# EAGLE library part VP1* (library inductor-cooper)
TRANSFORMER/INDUCTOR
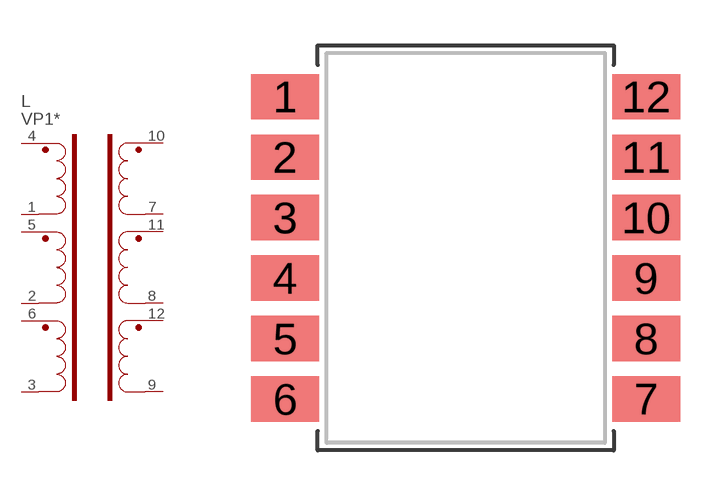
[diagram p0: symbol with the pads of VP1; footprint VP1]

Designator prefix L; gates P1=PNV P2=P P3=P S1=S S2=S S3=S

## VP1-0076-R (ISAT: 0.72A; L: 10.9uH; P1I: o), VP1-0102-R (ISAT: 0.8A; L: 6.5uH; P1I: o), VP1-0190-R (ISAT: 0.43A; L: 12.2uH; P1I: o), VP1-1400-R (ISAT: 0.06A; L: 89.6uH; P1I: o)  [VP1]
1  P1:PC  pas
2  P2:PC  pas
3  P3:PC  pas
4  P1:PH  pas
5  P2:PH  pas
6  P3:PH  pas
7  S1:SC  pas
8  S2:SC  pas
9  S3:SC  pas
10  S1:SH  pas
11  S2:SH  pas
12  S3:SH  pas

## Footprint VP1 (pad centres in mm)
INDUCTOR/TRANSFORMER VP1 and VPH1
smd 2.25 x 1.5: 1 -5.975,5; 2 -5.975,3; 3 -5.975,1; 4 -5.975,-1; 5 -5.975,-3; 6 -5.975,-5; 7 5.975,-5; 8 5.975,-3; 9 5.975,-1; 10 5.975,1; 11 5.975,3; 12 5.975,5